# Altium schematic symbol library 74LVC1G08GW.SchLib: 1 symbol
Pins are listed as number, name and electrical type; pins without a type are passive.

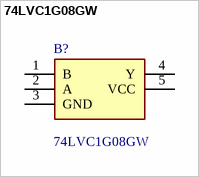
[diagram p0: symbol 74LVC1G08GW]

## 74LVC1G08GW
designator B?
Single 2-input AND gate; Manufacturer_Name: Nexperia; Geometry.Height: 1.1mm; element14 Part Number: *; element14 Price/Stock: *; Manufacturer_Part_Number: 74LVC1G08GW; Datasheet Link: https://componentsearchengine.com/Datasheets/2/74LVC1G08GW.pdf
footprint SOT65P212X110-5N
pins: 1 B, 2 A, 3 GND, 4 Y, 5 VCC